# Altium schematic symbol library sensors.SchLib: 3 symbols
Pins are listed as number, name and electrical type; pins without a type are passive.

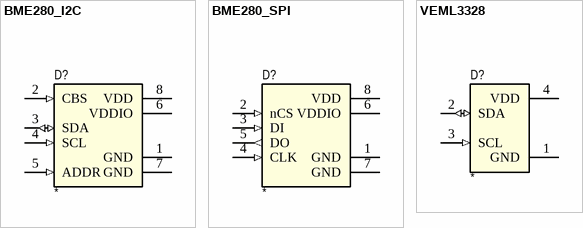
[diagram p0: symbols BME280_I2C to VEML3328]

## BME280_I2C
designator D?
pins: 1 GND (power), 2 CBS (in), 3 SDA (io), 4 SCL (in), 5 ADDR (in), 6 VDDIO (power), 7 GND (power), 8 VDD (power)

## BME280_SPI
designator D?
pins: 1 GND (power), 2 nCS (in), 3 DI (in), 4 CLK (in), 5 DO (out), 6 VDDIO (power), 7 GND (power), 8 VDD (power)

## VEML3328
designator D?
pins: 1 GND (power), 2 SDA (io), 3 SCL (in), 4 VDD (power)